# EAGLE library part D09P33E4GX00LF (library D09P33E4GX00LF_-_Amphenol_ICC_FCI_1)
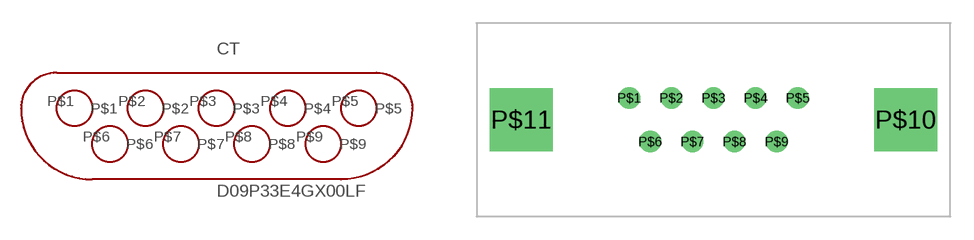
[diagram p0: symbol with the pads of JEDEC; footprint JEDEC]

Designator prefix CT

## D09P33E4GX00LF  [JEDEC]
P$1  P$1  pas
P$2  P$2  pas
P$3  P$3  pas
P$4  P$4  pas
P$5  P$5  pas
P$6  P$6  pas
P$7  P$7  pas
P$8  P$8  pas
P$9  P$9  pas

## Footprint JEDEC (pad centres in mm)
drill 0.9: P$1 -5.48,1.42; P$2 -2.74,1.42; P$3 0,1.42; P$4 2.74,1.42; P$5 5.48,1.42; P$6 -4.11,-1.42; P$7 -1.37,-1.42; P$8 1.37,-1.42; P$9 4.11,-1.42
drill 3.1 square: P$10 12.495,0; P$11 -12.495,0